# Altium schematic symbol library H03R0x.SCHLIB: 23 symbols
Pins are listed as number, name and electrical type; pins without a type are passive.

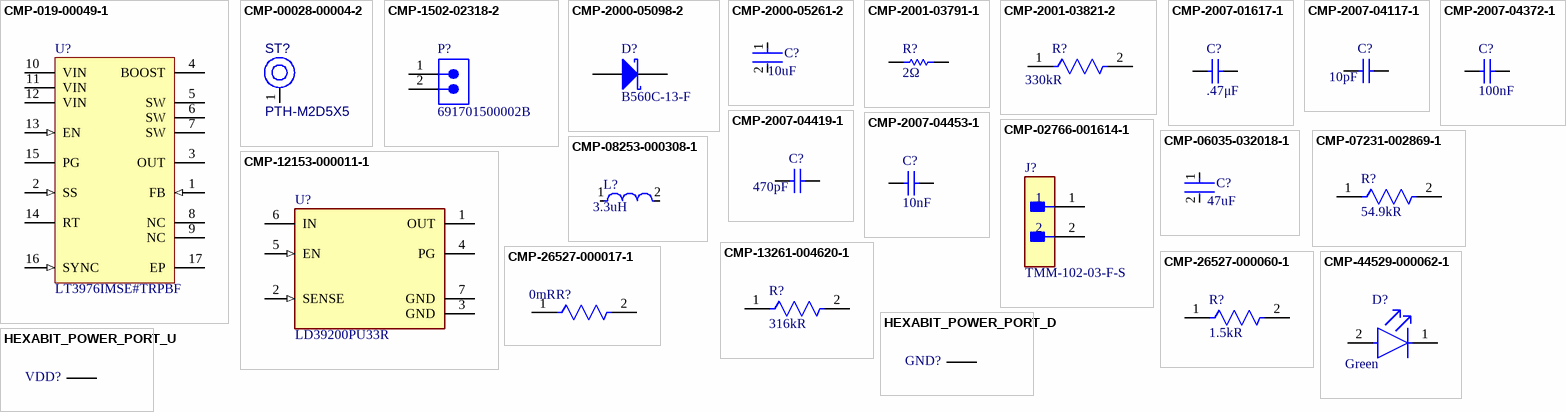
[diagram p0: symbols CMP-019-00049-1 to HEXABIT_POWER_PORT_U]

## CMP-019-00049-1
designator U?, comment LT3976IMSE#TRPBF
LT3976 - 40V, 5A, 2MHz Step-Down Switching Regulator with 3.3μA Quiescent Current; Output Voltage: 38.8V; Pins: 16; Output Current: 5A; Max Operating Temperature: 125°C; Min Operating Temperature: -40°C; Component Type: Power Supply
footprint LT-MSE-16-EDP_M (SOP, 16-Leads, Body 4.1x3.1mm, Pitch 0.5mm, Thermal Pad 2.95x1.76mm, IPC Low Density)
footprint LT-MSE-16-EDP_N (SOP, 16-Leads, Body 4.1x3.1mm, Pitch 0.5mm, Thermal Pad 2.95x1.76mm, IPC Medium Density)
footprint LT-MSE-16-EDP_L (SOP, 16-Leads, Body 4.1x3.1mm, Pitch 0.5mm, Thermal Pad 2.95x1.76mm, IPC High Density)
pins: 1 FB (in) "The LT3976 regulates the FB pin to 1.197V. Connect the feedback resistor divider tap to this pin. Also, connect a phase lead capacitor between FB and the output. Typically, this capacitor is 10pF.", 2 SS (in) "A capacitor is tied between SS and ground to slowly ramp up the peak current limit of the LT3976 on start-up. There is an internal 1.8uA pull-up on this pin. The soft -start capacitor is actively discharged when the EN pin (See Datasheet)", 3 OUT (power) "This pin is an input to the dropout comparator which maintains a minimum dropout of 500mV between VIN and OUT. The OUT pin connects to the anode of the internal boost diode. This pin also supplies the current to the (See Datasheet)", 4 BOOST "This pin is used to provide a drive voltage, higher than the input voltage, to the internal bipolar NPN power switch.", 5 SW (power) "The SW pin is the output of an internal power switch. Connect these pins to the inductor, catch diode, and boost capacitor. An R-C snubber to GND is needed to ensure robustness under all conditions. Typical values are 2ohm (See Datasheet)", 6 SW (power) "The SW pin is the output of an internal power switch. Connect these pins to the inductor, catch diode, and boost capacitor. An R-C snubber to GND is needed to ensure robustness under all conditions. Typical values are 2ohm (See Datasheet)", 7 SW (power) "The SW pin is the output of an internal power switch. Connect these pins to the inductor, catch diode, and boost capacitor. An R-C snubber to GND is needed to ensure robustness under all conditions. Typical values are 2ohm (See Datasheet)", 8 NC "No Connects. These pins are not connected to internal circuitry.", 9 NC "No Connects. These pins are not connected to internal circuitry.", 10 VIN (power) "The VIN pin supplies current to the LT3976’s internal circuitry and to the internal power switch. These pins must be locally bypassed.", 11 VIN (power) "The VIN pin supplies current to the LT3976’s internal circuitry and to the internal power switch. These pins must be locally bypassed.", 12 VIN (power) "The VIN pin supplies current to the LT3976’s internal circuitry and to the internal power switch. These pins must be locally bypassed.", 13 EN (in) "The part is in shutdown when this pin is low and active when this pin is high. The hysteretic threshold voltage is 1.08V going up and 1.02V going down. The EN threshold is only accurate when VIN is above 4.3V. If VIN is (See Datasheet)", 14 RT "A resistor is tied between RT and ground to set the switching frequency.", 15 PG (hiz) "The PG pin is the open-drain output of an internal comparator. PGOOD remains low until the FB pin is within 8.4% of the final regulation voltage. PGOOD is valid when VIN is above 2V.", 16 SYNC (in) "This is the external clock synchronization input. Ground this pin for low ripple Burst Mode operation at low output loads. Tie to a clock source for synchronization, which will include pulse skipping at low output loads. (See Datasheet)", 17 EP (power) "Ground. The exposed pad must be soldered to the PCB."

## CMP-00028-00004-2
designator ST?, comment PTH-M2D5X5
M2 PTH (2.5mm), 5mm pad; Pins: 1; Component Type: Mechanical
footprint PTH-M2D5X5
pins: 1 H1

## CMP-1502-02318-2
designator P?, comment 691701500002B
NexarPartId: 22866741; Voltage Rating: 300V; Connector Type: Terminal Block; Gender: Male; Pitch: 5.08mm; Number of Contacts: 2; Current Rating: 10A; Length: 9.76mm; Contact Plating: Tin; Contact Gender: Male; RoHS: Compliant; Max Operating Temperature: 105°C; Mount: Through Hole; REACH SVHC: Unknown; Housing Material: Polymer; Lead Pitch: 5.08mm; Min Operating Temperature: -40°C; Termination: PCB; Number of Pins: 2; Color: Black; Contact Material: Brass
footprint 691701500002B (Terminal block, 5.08mm, open vertical PCB header, THR type, 2 pins)
pins: 1, 2

## CMP-2000-05098-2
designator D?, comment B560C-13-F
Schottky Barrier Rectifier, 5 A, 60 V, -55 to 125 degC, 2-Pin SMD, RoHS, Tape and Reel; Ir - Reverse Current: 500uA; Configuration: Single; Ifsm - Forward Surge Current: 100A; Vrrm - Repetitive Reverse Voltage: 60V; Brand: DiodesIncorporated; Vf - Forward Voltage: 0.7V; If - Forward Current: 5A; Unit Weight: 0.007408oz; Type: SchottkyBarrierRectifier; Package / Case: SMC; Manufacturer URL: http://www.diodes.com/; Datasheet URL: https://datasheet.ciiva.com/27052/1538961-27052355.pdf; Factory Pack Quantity: 3000; Height: 2.5mm; Width: 6.22mm; Product Category: SchottkyDiodes&Rectifiers; Minimum Operating Temperature: -55C; Manufacturer: DiodesIncorporated; Datasheet Version: Rev. 7-2, 06/2007; Product: SchottkyDiodes; Maximum Operating Temperature: +125C; Operating Temperature Range: -55Cto+125C; Technology: Si; Length: 7.11mm; RoHS: True; Packaging: Reel; Termination Style: SMD/SMT; Series: B560; Mounting Style: SMD/SMT
footprint DIOD-B5X0C-2_M (Molded Diode, 2-Leads, Body 7.11x6.22mm, IPC Low Density)
footprint DIOD-B5X0C-2_N (Molded Diode, 2-Leads, Body 7.11x6.22mm, IPC Medium Density)
footprint DIOD-B5X0C-2_L (Molded Diode, 2-Leads, Body 7.11x6.22mm, IPC High Density)
pins: 1 K, 2 A

## CMP-2000-05261-2
designator C?, comment Capacitance: 10uF  (hidden comment: GRM32ER71H106KA12L)
CAP CER 10UF 50V X7R 1210; Manufacturer: Murata; Tolerance: 10%; Description: 10µF ±10% 50V Ceramic Capacitor X7R 1210 (3225 Metric); Material: Ceramic; Temperature Coefficient: 15%; Voltage Rating: 50V; Temperature Characteristic: X7R; Value: 10uF; ComponentLink2Description: Datasheet; Device Class L1: Passive Components; Lead Free: Yes; Temperature Range High: +125°C; Category: Cap; Manufacturer Part Number: GRM32ER71H106KA12L; ComponentLink2URL: https://search.murata.co.jp/Ceramy/image/img/A01X/G101/ENG/GRM32ER71H106KA12-01.pdf; Device Class L2: Capacitors; Package: GRM32; Mouser Description: 1210 10 uF 50 V ±10% Tolerance X7R SMT Multilayer Ceramic Capacitor; Octopart: https://octopart.com/grm32er71h106ka12l-murata-10470987; Digikey Description: CAP CER 10UF 50V X7R 1210; Height: 2.7mm; Temperature: -55°C to +125°C; Temperature Range Low: -55°C; RoHS: TRUE; Device Class L3: Ceramic Capacitors; Automotive: No
footprint FP-GRM32-MFG
footprint FP-GRM32-IPC_C
footprint FP-GRM32-IPC_B
footprint FP-GRM32-IPC_A
pins: 1, 2

## CMP-2001-03791-1
designator R?, comment Resistance: 2Ω  (hidden comment: CRCW08052R00FNEA)
Manufacturer: Vishay Dale; Part Number: CRCW08052R00FNEA
footprint RESC2013X50X30NL20T20 (Chip Resistor, 2-Leads, Body 2.00x1.25mm, IPC Medium Density)
footprint RESC2013X50X30LL20T20 (Chip Resistor, 2-Leads, Body 2.00x1.25mm, IPC High Density)
footprint RESC2013X50X30ML20T20 (Chip Resistor, 2-Leads, Body 2.00x1.25mm, IPC Low Density)
pins: 1, 2
1 alternate drawing of the same symbol

## CMP-2001-03821-2
designator R?, comment Resistance: 330kR  (hidden comment: CRCW0805330KFKEA)
RES Thick Film, 330kΩ, 1%, 0.125W, 100ppm/°C, 0805; Power Rating: 125mW; Voltage Rating (DC): 150V; Case Code (Metric): 2012; Contact Plating: Tin; Composition: Thick Film; Length: 2mm; Radiation Hardening: No; Height: 0.45mm; Max Operating Temperature: 155°C; Lead Free: Lead Free; Packaging: Tape and Reel; Depth: 1.25mm; Tolerance: 1%; Width: 1.25mm; Termination: SMD/SMT; Case Code (Imperial): 0805; Case/Package: 0805; Voltage Rating: 150V; Weight: 0.000194oz; Package Quantity: 5000; Temperature Coefficient: 100ppm/°C; Military Standard: Not; Min Operating Temperature: -55°C
footprint FP-CRCW0805-e3-MFG
footprint FP-CRCW0805-e3-IPC_B
footprint FP-CRCW0805-e3-IPC_C
footprint FP-CRCW0805-e3-IPC_A
pins: 1, 2

## CMP-2007-01617-1
designator C?, comment Capacitance: .47μF  (hidden comment: VJ0805Y474KXQRW1BC)
Manufacturer: Vitramon; Part Number: VJ0805Y474KXQRW1BC
footprint CAPC2013X145X50LL20T20 (Chip Capacitor, 2-Leads, Body 2.00x1.25mm, IPC High Density)
footprint CAPC2013X145X50NL20T20 (Chip Capacitor, 2-Leads, Body 2.00x1.25mm, IPC Medium Density)
footprint CAPC2013X145X50ML20T20 (Chip Capacitor, 2-Leads, Body 2.00x1.25mm, IPC Low Density)
pins: 1, 2
1 alternate drawing of the same symbol

## CMP-2007-04117-1
designator C?, comment Capacitance: 10pF  (hidden comment: 08051A100JAT4A)
Manufacturer: AVX Interconnect / Elco; Part Number: 08051A100JAT4A
footprint CAPC2013X94X50LL20T25 (Chip Capacitor, 2-Leads, Body 2.01x1.25mm, IPC High Density)
footprint CAPC2013X94X50ML20T25 (Chip Capacitor, 2-Leads, Body 2.01x1.25mm, IPC Low Density)
footprint CAPC2013X94X50NL20T25 (Chip Capacitor, 2-Leads, Body 2.01x1.25mm, IPC Medium Density)
pins: 1, 2
1 alternate drawing of the same symbol

## CMP-2007-04372-1
designator C?, comment Capacitance: 100nF  (hidden comment: 08055C104KAZ2A)
Manufacturer: AVX Interconnect / Elco; Part Number: 08055C104KAZ2A
footprint CAPC2013X94X50NL20T25 (Chip Capacitor, 2-Leads, Body 2.01x1.25mm, IPC Medium Density)
footprint CAPC2013X94X50ML20T25 (Chip Capacitor, 2-Leads, Body 2.01x1.25mm, IPC Low Density)
footprint CAPC2013X94X50LL20T25 (Chip Capacitor, 2-Leads, Body 2.01x1.25mm, IPC High Density)
pins: 1, 2
1 alternate drawing of the same symbol

## CMP-2007-04419-1
designator C?, comment Capacitance: 470pF  (hidden comment: 08055C471KAT4A)
Manufacturer: AVX Interconnect / Elco; Part Number: 08055C471KAT4A
footprint CAPC2013X94X50NL20T25 (Chip Capacitor, 2-Leads, Body 2.01x1.25mm, IPC Medium Density)
footprint CAPC2013X94X50LL20T25 (Chip Capacitor, 2-Leads, Body 2.01x1.25mm, IPC High Density)
footprint CAPC2013X94X50ML20T25 (Chip Capacitor, 2-Leads, Body 2.01x1.25mm, IPC Low Density)
pins: 1, 2
1 alternate drawing of the same symbol

## CMP-2007-04453-1
designator C?, comment Capacitance: 10nF  (hidden comment: 0805YC103MAT2A)
Manufacturer: AVX Interconnect / Elco; Part Number: 0805YC103MAT2A
footprint CAPC2013X94X50ML20T25 (Chip Capacitor, 2-Leads, Body 2.01x1.25mm, IPC Low Density)
footprint CAPC2013X94X50LL20T25 (Chip Capacitor, 2-Leads, Body 2.01x1.25mm, IPC High Density)
footprint CAPC2013X94X50NL20T25 (Chip Capacitor, 2-Leads, Body 2.01x1.25mm, IPC Medium Density)
pins: 1, 2
1 alternate drawing of the same symbol

## CMP-02766-001614-1
designator J?, comment TMM-102-03-F-S
CONN HEADER VERT 2POS 2MM; Number of Contacts: 2; Gender: Male; Pitch: 2mm; Packaging: Bulk; RoHS Compliant: Yes; Termination: Solder; Contact Plating: Gold; Mount: Through Hole; Number of Rows: 1; Radiation Hardening: No; Lead Free: Lead Free
footprint FP-TMM-102-03-F-S-MFG
pins: 1, 2

## CMP-06035-032018-1
designator C?, comment Capacitance: 47uF  (hidden comment: GRM32ED71A476KE15L)
Chip Multilayer Ceramic Capacitors for General Purpose, 1210, 47uF, X7T, +22%/-33%, 10%, 10V; Packaging: Tape and Reel; Package Quantity: 1000; Mount: Surface Mount; Thickness: 0.106inch; Max Operating Temperature: 125°C; Dielectric: X7T; Weight: 0.00388oz; Voltage Rating (DC): 10V; Termination: SMD/SMT; Case Code (Metric): 3225; Case/Package: 1210; Case Code (Imperial): 1210; Min Operating Temperature: -55°C; Width: 0.098inch; Tolerance: 10%; Length: 0.126inch; Height: 2.5mm; Voltage Rating: 10V
footprint FP-GRM32E-0_3-0_2-MFG
footprint FP-GRM32E-0_3-0_2-IPC_B
footprint FP-GRM32E-0_3-0_2-IPC_C
footprint FP-GRM32E-0_3-0_2-IPC_A
pins: 1, 2

## CMP-07231-002869-1
designator R?, comment Resistance: 54.9kR  (hidden comment: CR0805-FX-5492ELF)
Thick Film Chip Resistors 0805 54.9kΩ 0.125W 1% 100ppm/°C; Voltage Rating: 150V; Power Rating: 125mW; Contact Plating: Tin; Thickness: 508um; Military Standard: Not; Height: 0.5mm; Max Operating Temperature: 155°C; Radiation Hardening: No; Composition: Thick Film; Case Code (Metric): 2012; Depth: 1.25mm; Case Code (Imperial): 0805; Length: 2mm; Case/Package: 0805; Termination: SMD/SMT; Width: 1.25mm; Temperature Coefficient: 100ppm/°C; Min Operating Temperature: -55°C; Packaging: Tape and Reel; Tolerance: 1%; Mount: Surface Mount; Package Quantity: 5000
footprint FP-CR0805-MFG
footprint FP-CR0805-IPC_B
footprint FP-CR0805-IPC_A
footprint FP-CR0805-IPC_C
pins: 1, 2

## CMP-08253-000308-1
designator L?, comment Inductance: 3.3uH  (hidden comment: MLZ2012A3R3WT000)
Shielded Multilayer Inductor 3.3uH ±20% 450mA 442mΩ SMD 0805; Saturation Current: 200mA; Self Resonant Frequency: 90MHz; DC Resistance (DCR): 442mR; Core Material: Ferrite; Test Frequency: 10MHz; Current Rating: 450mA; Shielding: Shielded; Lead Free: Lead Free; Length: 0.079inch; Max Operating Temperature: 125°C; Height - Seated (Max): 0.041inch; Tolerance: 20%; Mount: Surface Mount; Package Quantity: 1; Case/Package: 0805; Case Code (Metric): 2012; Min Operating Temperature: -55°C; Packaging: Cut Tape; RoHS Compliant: Yes; Case Code (Imperial): 0805; Width: 0.049inch
footprint FP-MLZ2012-0_85-IPC_C
footprint FP-MLZ2012-0_85-IPC_B
footprint FP-MLZ2012-0_85-MFG
footprint FP-MLZ2012-0_85-IPC_A
pins: 1, 2

## CMP-12153-000011-1
designator U?, comment LD39200PU33R
IC REG LINEAR 3.3V 2A 6DFN; Number of Outputs: 1; Max Input Voltage: 6V; Output Type: Fixed; Min Input Voltage: 1.25V; Dropout Voltage: 130mV; Operating Supply Current: 1mA; Number of Regulators: 1; Case/Package: DFN; Packaging: Tape and Reel; Output Current: 2A; Min Operating Temperature: -40°C; Mount: Surface Mount; Output Voltage: 3.3V; Max Operating Temperature: 125°C; Lead Free: Lead Free; Package Quantity: 3000
footprint FP-DFN6-7946637-MFG
footprint FP-DFN6-7946637-IPC_C
footprint FP-DFN6-7946637-IPC_B
footprint FP-DFN6-7946637-IPC_A
pins: 1 OUT (power), 2 SENSE (in), 3 GND (power), 4 PG (oc), 5 EN (in), 6 IN (power), 7 GND (power)

## CMP-13261-004620-1
designator R?, comment Resistance: 316kR  (hidden comment: RC2012F3163CS)
Res Thick Film 0805 316kΩ 1% 0.125W ±100ppm/°C Molded SMD T/R; Voltage Rating (DC): 150V; Power Rating: 125mW; Contact Plating: Tin; Lead Free: Lead Free; Military Standard: Not; Temperature Coefficient: 100ppm/°C; Case Code (Imperial): 0805; Number of Terminations: 2; Width: 0.049inch; Radiation Hardening: No; Packaging: Tape and Reel; Composition: Thick Film; Case Code (Metric): 2012; Min Operating Temperature: -55°C; Max Operating Temperature: 155°C; Features: Moisture Resistant; Depth: 1.25mm; Length: 2mm; Height: 0.024inch; Tolerance: 1%; Case/Package: 0805; Max Power Dissipation: 125mW
footprint FP-RC2012-IPC_C
footprint FP-RC2012-MFG
footprint FP-RC2012-IPC_A
footprint FP-RC2012-IPC_B
pins: 1, 2

## CMP-26527-000017-1
designator R?, comment Resistance: 0mR  (hidden comment: RMCF0805ZT0R00)
RES 0 OHM JUMPER 1/8W 0805; Power Rating: 125mW; Depth: 1.25mm; Length: 2mm; Military Standard: Not; Width: 0.049inch; Case Code (Imperial): 0805; Number of Terminations: 2; Mount: Surface Mount; Contact Plating: Tin; Height: 0.026inch; Case/Package: 0805; Min Operating Temperature: -55°C; Composition: Thick Film; Max Operating Temperature: 155°C; Packaging: Tape and Reel; Features: Automotive AEC-Q200; Max Power Dissipation: 125mW; Radiation Hardening: No; Lead Free: Lead Free; Case Code (Metric): 2012
footprint FP-RMCF0805-MFG
footprint FP-RMCF0805-IPC_C
footprint FP-RMCF0805-IPC_B
footprint FP-RMCF0805-IPC_A
pins: 1, 2

## CMP-26527-000060-1
designator R?, comment Resistance: 1.5kR  (hidden comment: RMCF0805JT1K50)
1.5kΩ ±5% 0.125W 0805 Thick Film Chip Resistor AEC-Q200 compliant; Power Rating: 125mW; Temperature Coefficient: 100ppm/°C; Tolerance: 5%; Radiation Hardening: No; Width: 0.049inch; Mount: Surface Mount; RoHS Compliant: Yes; Length: 0.079inch; Series: RMCF; Case Code (Metric): 2012; Contact Plating: Tin; Size Code: 0805; Resistor Type: Thick Film; Construction: Rectangular; Case/Package: 0805; Min Operating Temperature: -55°C; Max Power Dissipation: 125mW; Lead Free: Lead Free; Height: 0.026inch; Features: Automotive AEC-Q200; Number of Terminations: 2; Depth: 1.25mm; Packaging: Tape and Reel; Max Operating Temperature: 155°C; Military Standard: Not; Case Code (Imperial): 0805
footprint FP-RMCF0805-IPC_A
footprint FP-RMCF0805-IPC_B
footprint FP-RMCF0805-IPC_C
footprint FP-RMCF0805-MFG
pins: 1, 2

## CMP-44529-000062-1
designator D?, comment Illumination Color: Green  (hidden comment: APHCM2012CGCK-F01)
LED GREEN CLEAR CHIP SMD; Dominant Wavelength: 570nm; Forward Current: 20mA; Number of LEDs: 1; Luminous Intensity: 40mcd; Forward Voltage: 2.1V; Viewing Angle: 110°; Lens Style: Clear; Mount: Surface Mount; Length: 2mm; Max Operating Temperature: 85°C; Series: APHCM; Width: 1.25mm; Lead Free: Lead Free; Wavelength: 570nm; Package Quantity: 1; Number of Pins: 2; Case Code (Metric): 2012; RoHS Compliant: Yes; Packaging: Tape and Reel; Lens Color: Clear; Case/Package: 0805; Case Code (Imperial): 0805; Test Current: 20mA; Color: Green; Min Operating Temperature: -40°C; Height: 0.4mm
footprint FP-APHCM2012CGCK-F01-MFG
pins: 1 C, 2 A

## HEXABIT_POWER_PORT_D
designator GND?, comment HEXABIT_UART_PORT  (value not drawn)  (no BOM)
footprint HEXABIT_POWER_PORT_D
pins: Pwr_D

## HEXABIT_POWER_PORT_U
designator VDD?, comment HEXABIT_UART_PORT  (value not drawn)  (no BOM)
footprint HEXABIT_POWER_PORT_U
pins: Pwr_U